# Altium footprint library 826949-4.PcbLib: 1 footprints
Each footprint in its own frame and in the unit in brackets; x right, y up, seen from the top. Pads: shape width x height; smd on the part's side, far side on the other; paste and mask are expansions set on the pad; w line width, h text height; cw(c..) or ccw(c..) is an arc to the next point about the centre after c.
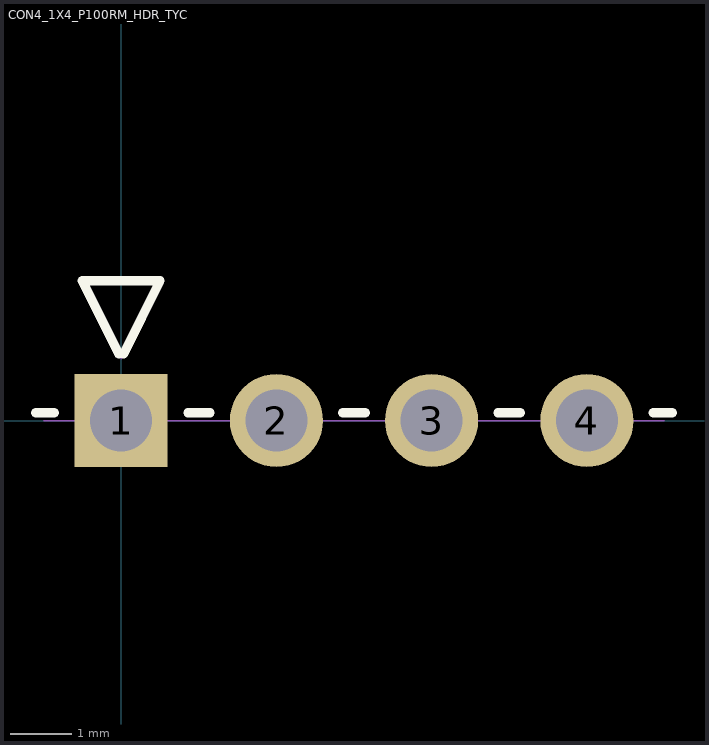
[diagram p0: the footprint, top view; thin cyan lines are the x and y axes]

## CON4_1X4_P100RM_HDR_TYC [mil]
pads (4):
  rect 60x60 / inner round 60 / far side rect 60x60 hole 40 paste-30 mask+0: 1(0,0)
  round 60 hole 40 paste-30 mask+0: 2(100,0) 3(200,0) 4(300,0)
Top Overlay:
  lines w6: -55,5 -43.1,5 ; -1.55,43.1 -25,90 25,90 1.55,43.1 ; 43.1,5 57.19,5 ; 142.81,5 157.19,5 ; 242.81,5 257.19,5 ; 342.81,5 355,5
Mechanical 13:
  lines w1: -50,0 350,0 ; -25,90 25,90 0,40 -25,90
3D body "CON4_1X4_P100RM_HDR_TYC.step": height 100, standoff -250, extent -50,-15 350,490